# Altium schematic symbol library Digital_Clock.SchLib: 4 symbols
Pins are listed as number, name and electrical type; pins without a type are passive.

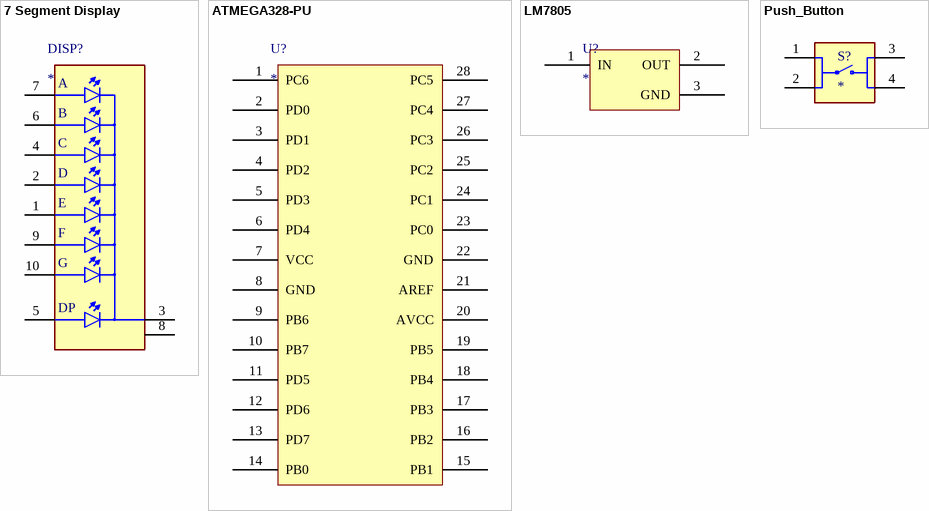
[diagram p0: symbols 7 Segment Display to Push_Button]

## 7 Segment Display
designator DISP?
footprint 7 Segment Display
pins: 1 E, 2 D, 3 COM, 4 C, 5 DP, 6 B, 7 A, 8 COM, 9 F, 10 G

## ATMEGA328-PU
designator U?
footprint ATMEGA328-PU
pins: 1 PC6, 2 PD0, 3 PD1, 4 PD2, 5 PD3, 6 PD4, 7 VCC, 8 GND, 9 PB6, 10 PB7, 11 PD5, 12 PD6, 13 PD7, 14 PB0, 15 PB1, 16 PB2, 17 PB3, 18 PB4, 19 PB5, 20 AVCC, 21 AREF, 22 GND, 23 PC0, 24 PC1, 25 PC2, 26 PC3, 27 PC4, 28 PC5

## LM7805
designator U?
footprint LM7805CT
pins: 1 IN, 2 OUT, 3 GND

## Push_Button
designator S?
footprint Push_Button
pins: 1, 2, 3, 4